# Altium footprint library PowerCases.PcbLib: 3 footprints
Each footprint in its own frame and in the unit in brackets; x right, y up, seen from the top. Pads: shape width x height; smd on the part's side, far side on the other; paste and mask are expansions set on the pad; w line width, h text height; cw(c..) or ccw(c..) is an arc to the next point about the centre after c.
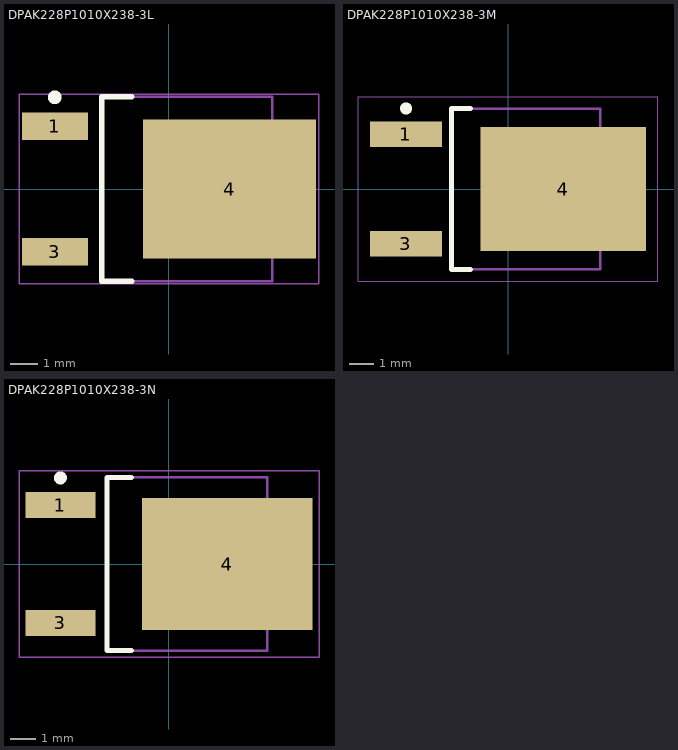
[diagram p0: the footprints below, top view; thin cyan lines are the x and y axes]

## DPAK228P1010X238-3L [mm] "D-PAK, 3-Pads, Body 6,20x6,71mm (max), IPC High Density"
height 2.38
pads (3):
  rect 2.4x1 smd: 1(-4.15,2.28) 3(-4.15,-2.28)
  rect 6.3x5.05 smd: 4(2.2,0)
Top Overlay:
  circle w0.25: c-4.15,3.33 r0.125
  lines w0.2: -1.35,-3.35 -2.45,-3.35 -2.45,3.35 -1.35,3.35
Mechanical 13:
  lines w0.1: -2.45,-3.35 -2.45,3.35 3.75,3.35 3.75,-3.35 -2.45,-3.35
Mechanical 15:
  lines w0.05: -5.45,-3.45 -5.45,3.45 5.45,3.45 5.45,-3.45 -5.45,-3.45
  lines w0.1: -0.5,0 0.5,0 ; 0,-0.5 0,0.5
3D body "DPAK228P1010X238-3L.step": height 2.38, standoff 0, extent -4.725,-3.35 5.375,3.35

## DPAK228P1010X238-3M [mm] "D-PAK, 3-Pads, Body 6,20x6,71mm (max), IPC Low Density"
height 2.38
pads (3):
  rect 3x1.05 smd: 1(-4.25,2.28) 3(-4.25,-2.28)
  rect 6.9x5.15 smd: 4(2.3,0)
Top Overlay:
  circle w0.25: c-4.25,3.355 r0.125
  lines w0.2: -1.55,-3.35 -2.35,-3.35 -2.35,3.35 -1.55,3.35
Mechanical 13:
  lines w0.1: -2.35,-3.35 -2.35,3.35 3.85,3.35 3.85,-3.35 -2.35,-3.35
Mechanical 15:
  lines w0.05: -6.25,-3.85 -6.25,3.85 6.25,3.85 6.25,-3.85 -6.25,-3.85
  lines w0.1: -0.5,0 0.5,0 ; 0,-0.5 0,0.5
3D body "DPAK228P1010X238-3M.step": height 2.38, standoff 0, extent -4.575,-3.35 5.525,3.35

## DPAK228P1010X238-3N [mm] "D-PAK, 3-Pads, Body 6,20x6,71mm (max), IPC Medium Density"
height 2.38
pads (3):
  rect 2.7x1 smd: 1(-4.2,2.28) 3(-4.2,-2.28)
  rect 6.6x5.1 smd: 4(2.25,0)
Top Overlay:
  circle w0.25: c-4.2,3.33 r0.125
  lines w0.2: -1.45,-3.35 -2.4,-3.35 -2.4,3.35 -1.45,3.35
Mechanical 13:
  lines w0.1: -2.4,-3.35 -2.4,3.35 3.8,3.35 3.8,-3.35 -2.4,-3.35
Mechanical 15:
  lines w0.05: -5.8,-3.6 -5.8,3.6 5.8,3.6 5.8,-3.6 -5.8,-3.6
  lines w0.1: -0.5,0 0.5,0 ; 0,-0.5 0,0.5
3D body "DPAK228P1010X238-3N.step": height 2.38, standoff 0, extent -4.675,-3.35 5.425,3.35